# Altium footprint library hddr_3x2_0.PcbLib: 1 footprints
Each footprint in its own frame and in the unit in brackets; x right, y up, seen from the top. Pads: shape width x height; smd on the part's side, far side on the other; paste and mask are expansions set on the pad; w line width, h text height; cw(c..) or ccw(c..) is an arc to the next point about the centre after c.
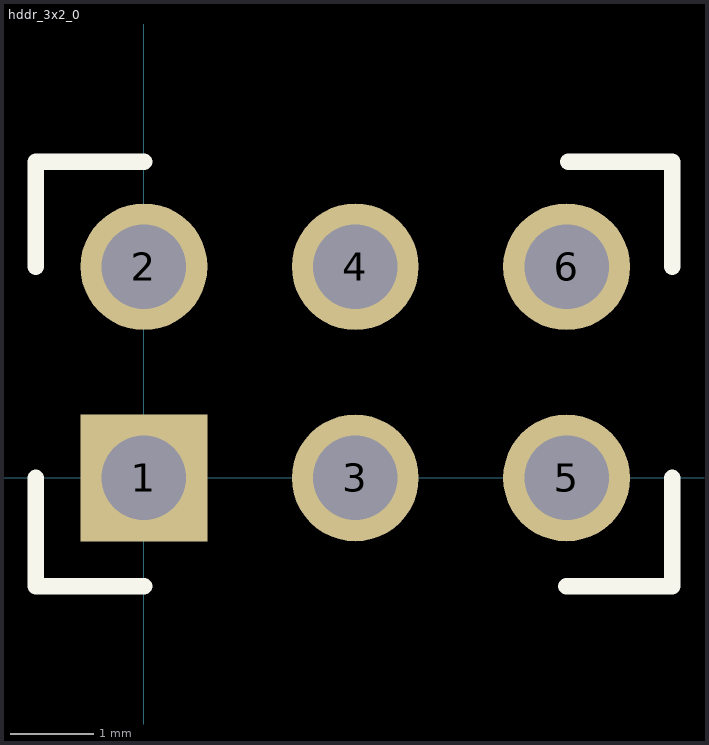
[diagram p0: the footprint, top view; thin cyan lines are the x and y axes]

## hddr_3x2_0 [mil] "0.1\" Header 3x2"
pads (6):
  rect 60x60 hole 40: 1(0,0)
  round 60 hole 40: 2(0,100) 3(100,0) 4(100,100) 5(200,0) 6(200,100)
Top Overlay:
  lines w7.87: -51.18,0 -51.18,-51.18 0,-51.18 ; -51.18,100 -51.18,149.61 0,149.61 ; 200,-51.18 250,-51.18 250,0 ; 200.79,149.61 250,149.61 250,100
3D body "Pin Header Male 02x03 P2.54mm.stp": height 328.35, standoff -120.08, extent -49.99,-50.09 250.01,149.91